# EAGLE library part OPT101 (library MyLibrary)
MONOLITHIC PHOTODIODE AND SINGLE-SUPPLY TRANSIMPEDANCE AMPLIFIER
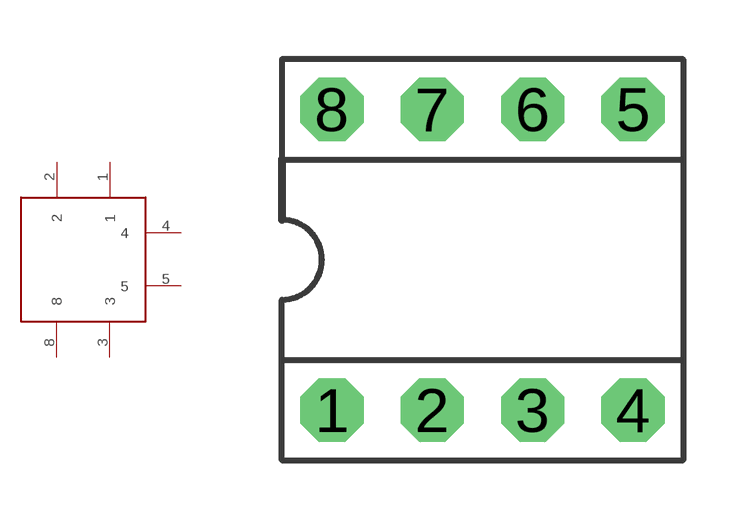
[diagram p2: symbol with the pads of DIL08; footprint DIL08]

Designator prefix -

## OPT101  [DIL08]
1  1
2  2
3  3
4  4
5  5
8  8

## Footprint DIL08 (pad centres in mm)
Dual In Line
drill 0.813 pad 1.6 octagon: 1 -3.81,-3.81; 2 -1.27,-3.81; 3 1.27,-3.81; 4 3.81,-3.81; 5 3.81,3.81; 6 1.27,3.81; 7 -1.27,3.81; 8 -3.81,3.81